# Altium schematic symbol library SCH - OPTOISOLATORS - LITEON LTV-247.SchLib: 1 symbol
Pins are listed as number, name and electrical type; pins without a type are passive.

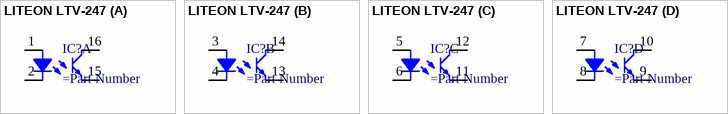
[diagram p0: symbol LITEON LTV-247]

## LITEON LTV-247
designator IC?
part A pins: 1, 2, 15, 16
part B pins: 3, 4, 13, 14
part C pins: 5, 6, 11, 12
part D pins: 7, 8, 9, 10